# Altium footprint library LQH44P.PcbLib: 2 footprints
Each footprint in its own frame and in the unit in brackets; x right, y up, seen from the top. Pads: shape width x height; smd on the part's side, far side on the other; paste and mask are expansions set on the pad; w line width, h text height; cw(c..) or ccw(c..) is an arc to the next point about the centre after c.
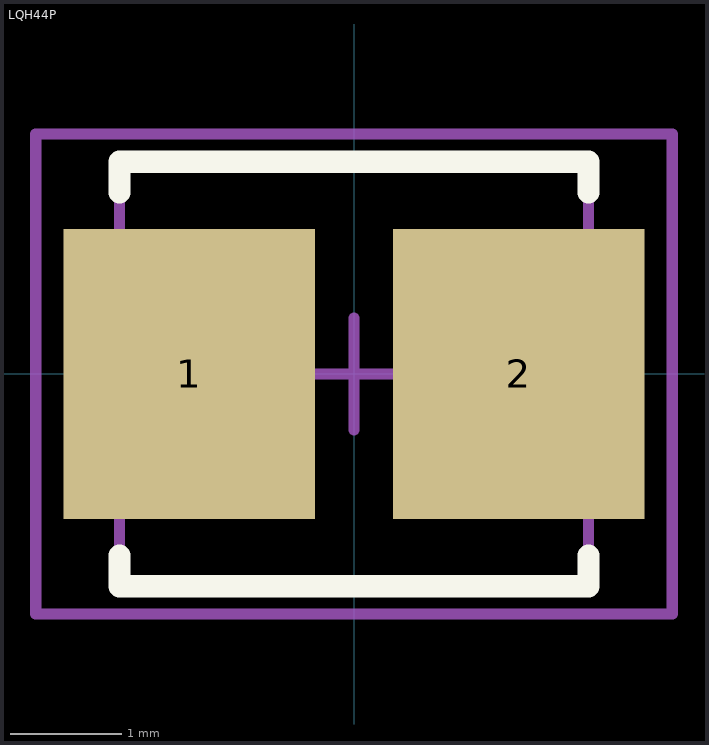
[diagram p0: the footprints below, top view; thin cyan lines are the x and y axes]

## LQH44P [mm] "Chip Inductor"
height 1.8
pads (2):
  rect 2.25x2.6 smd: 1(-1.475,0) 2(1.475,0)
Top Overlay:
  lines w0.2: -2.1,-1.625 -2.1,-1.9 2.1,-1.9 2.1,-1.625 ; -2.1,1.625 -2.1,1.9 2.1,1.9 2.1,1.625
Mechanical 13:
  lines w0.1: -2.1,-1.85 -2.1,1.85 2.1,1.85 2.1,-1.85 -2.1,-1.85
Mechanical 15:
  lines w0.1: -0.5,0 0.5,0 ; 0,-0.5 0,0.5 ; -2.85,-2.15 -2.85,2.15 2.85,2.15 2.85,-2.15 -2.85,-2.15
3D body: height 1.65, standoff -0.06, extent -2.031,-1.783 2.031,1.778

## PCBComponent_1 - duplicate [mm]